# EAGLE library part ACS711-SOIC (library ACS711)
Hall-effect-based isolated linear current sensor
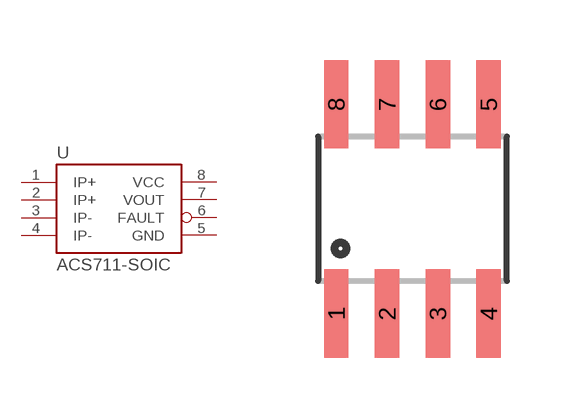
[diagram p0: symbol with the pads of SOIC8; footprint SOIC8]

Designator prefix -

## ACS711-SOIC  [SOIC8]
1  IP+
2  IP+
3  IP-
4  IP-
5  GND
6  FAULT
7  VOUT
8  VCC

## Footprint SOIC8 (pad centres in mm)
Small Outline Package Fits JEDEC packages (narrow SOIC-8)
smd 0.61 x 2.21: 1 -1.905,-2.616; 2 -0.635,-2.616; 3 0.635,-2.616; 4 1.905,-2.616; 5 1.905,2.616; 6 0.635,2.616; 7 -0.635,2.616; 8 -1.905,2.616